# EAGLE library part HF693 (library Relay)
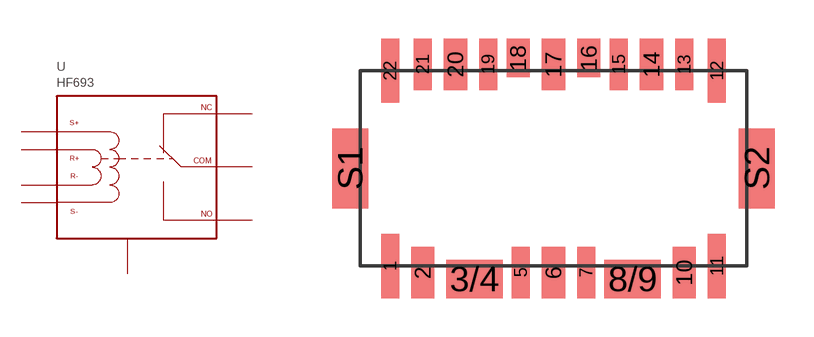
[diagram p1: symbol with the pads of HF6; footprint HF6]

Designator prefix -

## HF693  [HF6]
1  RC+
2  GND
5  GND
6  COM
7  GND
10  GND
11  RC-
12  SC-
13  GND
14  NO
15  GND
17  GND
19  GND
20  NC
21  GND
22  SC+
S1  GND
S2  GND

## Footprint HF6 (pad centres in mm)
smd 0.7 x 2.5: 1 -6.35,-3.8; 11 6.35,-3.8; 12 6.35,3.8; 22 -6.35,3.8
smd 0.9 x 2: 2 -5.08,-4.05; 6 0,-4.05; 10 5.08,-4.05; 14 3.81,4.05; 17 0,4.05; 20 -3.81,4.05
smd 2.2 x 1.5: 3/4 -3.075,-4.3; 8/9 3.075,-4.3
smd 0.7 x 2: 5 -1.27,-4.05; 7 1.27,-4.05; 13 5.08,4.05; 15 2.54,4.05; 19 -2.54,4.05; 21 -5.08,4.05
smd 0.9 x 1.5: 16 1.375,4.3; 18 -1.375,4.3
smd 1.4 x 3.1: S1 -7.9,0; S2 7.9,0